# Altium footprint library GWJELMS1EMH2H6XX55165R33.PcbLib: 1 footprints
Each footprint in its own frame and in the unit in brackets; x right, y up, seen from the top. Pads: shape width x height; smd on the part's side, far side on the other; paste and mask are expansions set on the pad; w line width, h text height; cw(c..) or ccw(c..) is an arc to the next point about the centre after c.
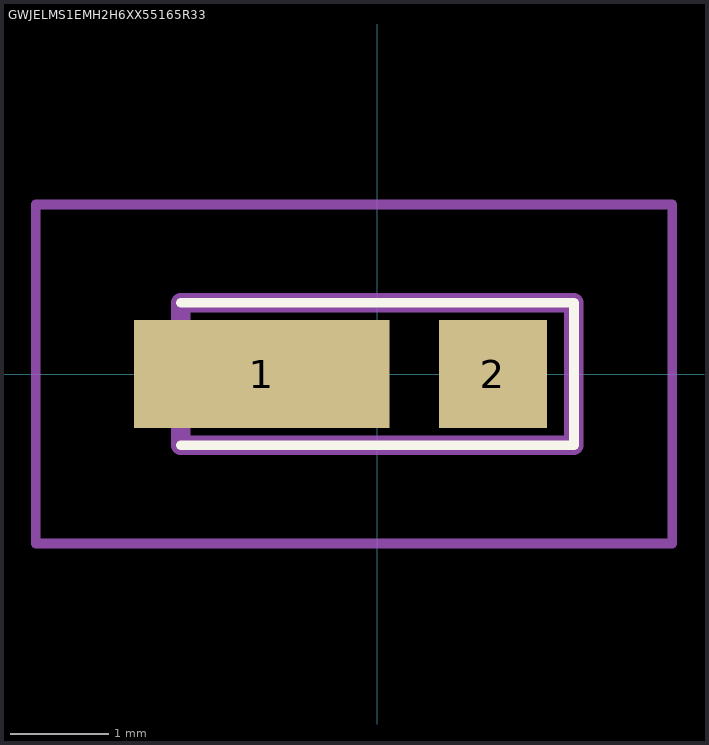
[diagram p0: the footprint, top view; thin cyan lines are the x and y axes]

## GWJELMS1EMH2H6XX55165R33 [mm]
pads (2):
  rect 2.6x1.1 smd: 1(-1.175,0)
  rect 1.1x1.1 smd: 2(1.175,0)
Top Overlay:
  lines w0.1: -2,-0.725 2,-0.725 2,0.725 -2,0.725
Mechanical 15:
  lines w0.2: -2,-0.725 2,-0.725 2,0.725 -2,0.725 -2,-0.725
Mechanical 20:
  lines w0.1: -3.475,-1.725 3,-1.725 3,1.725 -3.475,1.725 -3.475,-1.725